# Altium integrated library ON Semi Schottky Diodes & Schottky Rectifiers.IntLib: 755 symbols (part 1 of 17)
Pins are listed as number, name and electrical type; pins without a type are passive.

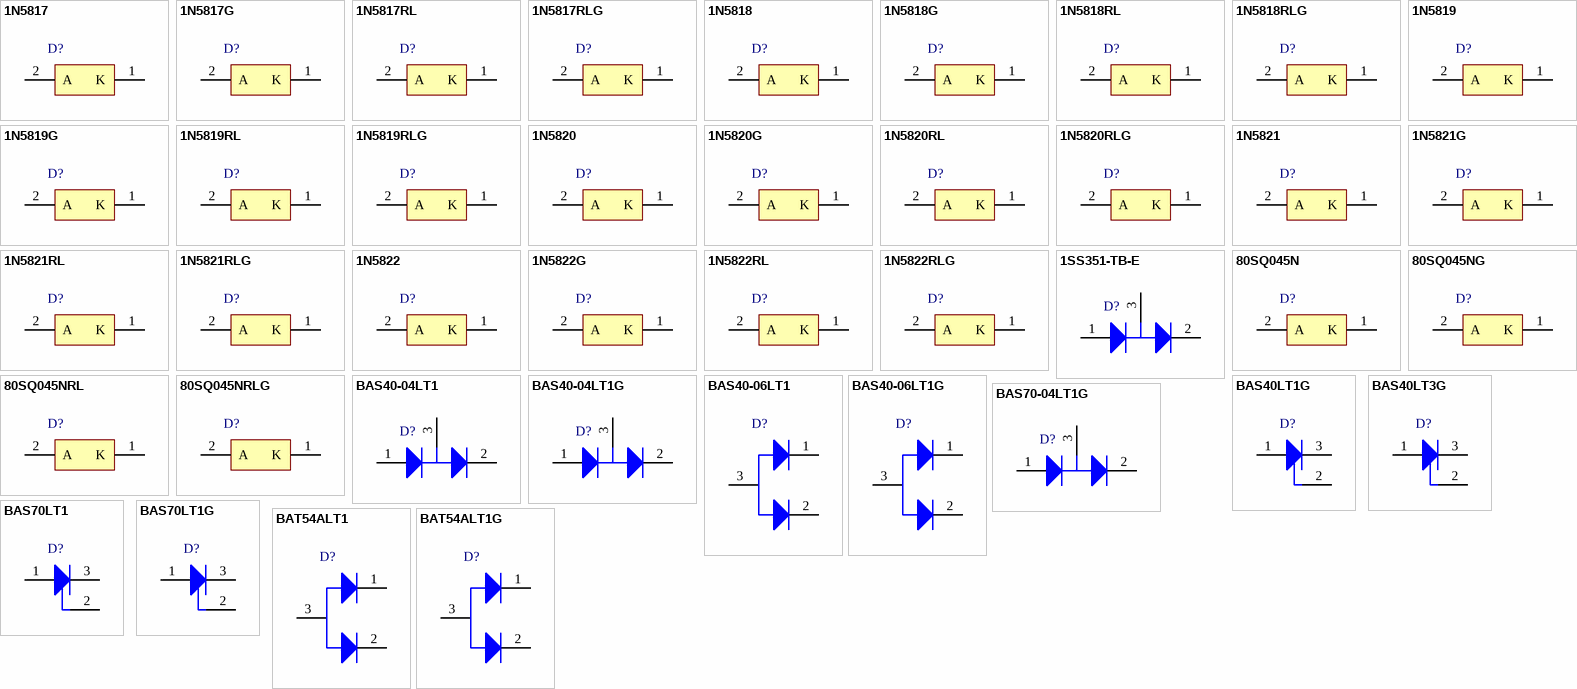
[diagram p0: symbols 1N5817 to BAT54ALT1G]

## 1N5817
designator D?
Rectifier, 2-Pin Axial_Lead, Pb-Free, Bulk Bag; Manufacturer: On Semiconductor; PartNumber: 1N5817; Note: 0; Configuration: Single; IFSM Max (A): 25; DatasheetVersion: Rev. 10; PackageVersion: Rev. U, 02/2005; PackageReference: AXIAL_LEAD-2-59-10; PackageDescription: 2-Pin, Axial Lead, Diameter 2.35 mm; Packing: Bulk Bag; RoHS: TRUE; Mounting Technology: Through Hole; ComponentLink1Description: Manufacturer URL; ComponentLink1URL: http://www.onsemi.com/; ComponentLink2Description: Datasheet; ComponentLink2URL: http://www.onsemi.cn/pub_link/Collateral/1N5817-D.PDF; ComponentLink3Description: Package Specification; ComponentLink3URL: http://www.onsemi.cn/pub_link/Collateral/59-10.PDF
footprint ONSC-AXIAL_LEAD-2-59-10_P (AXIAL, 2-Leads, Diameter 2.35mm)
pins: 1 K, 2 A

## 1N5817G
designator D?
Rectifier, 2-Pin Axial_Lead, Pb-Free, Bulk Bag; Manufacturer: On Semiconductor; PartNumber: 1N5817G; Configuration: Single; IFSM Max (A): 25; DatasheetVersion: Rev. 10; PackageVersion: Rev. U, 02/2005; PackageReference: AXIAL_LEAD-2-59-10; PackageDescription: 2-Pin, Axial Lead, Diameter 2.35 mm; Supplier 1: Digi-Key; Supplier Part Number 1: 1N5817GOS-ND; Supplier 2: Farnell; Supplier Part Number 2: 1458990; Supplier 3: Newark; Supplier Part Number 3: 42K2943; Supplier 4: Mouser; Supplier Part Number 4: 863-1N5817G; Packing: Bulk Bag; RoHS: TRUE; Mounting Technology: Through Hole; ComponentLink1Description: Manufacturer URL; ComponentLink1URL: http://www.onsemi.com/; ComponentLink2Description: Datasheet; ComponentLink2URL: http://www.onsemi.cn/pub_link/Collateral/1N5817-D.PDF; ComponentLink3Description: Package Specification; ComponentLink3URL: http://www.onsemi.cn/pub_link/Collateral/59-10.PDF
footprint ONSC-AXIAL_LEAD-2-59-10_P (AXIAL, 2-Leads, Diameter 2.35mm)
pins: 1 K, 2 A

## 1N5817RL
designator D?
Rectifier, 2-Pin Axial_Lead, Pb-Free, Tape and Reel; Manufacturer: On Semiconductor; PartNumber: 1N5817RL; Configuration: Single; IFSM Max (A): 25; DatasheetVersion: Rev. 10; PackageVersion: Rev. U, 02/2005; PackageReference: AXIAL_LEAD-2-59-10; PackageDescription: 2-Pin, Axial Lead, Diameter 2.35 mm; Supplier 1: Digi-Key; Supplier Part Number 1: 1N5817RLOSTR-ND; Supplier 2: Digi-Key; Supplier Part Number 2: 1N5817RLOSCT-ND; Supplier 3: Mouser; Supplier Part Number 3: 863-1N5817RL; Packing: Tape and Reel; RoHS: TRUE; Mounting Technology: Through Hole; ComponentLink1Description: Manufacturer URL; ComponentLink1URL: http://www.onsemi.com/; ComponentLink2Description: Datasheet; ComponentLink2URL: http://www.onsemi.cn/pub_link/Collateral/1N5817-D.PDF; ComponentLink3Description: Package Specification; ComponentLink3URL: http://www.onsemi.cn/pub_link/Collateral/59-10.PDF
footprint ONSC-AXIAL_LEAD-2-59-10_P (AXIAL, 2-Leads, Diameter 2.35mm)
pins: 1 K, 2 A

## 1N5817RLG
designator D?
Rectifier, 2-Pin Axial_Lead, Pb-Free, Tape and Reel; Manufacturer: On Semiconductor; PartNumber: 1N5817RLG; Configuration: Single; IFSM Max (A): 25; DatasheetVersion: Rev. 10; PackageVersion: Rev. U, 02/2005; PackageReference: AXIAL_LEAD-2-59-10; PackageDescription: 2-Pin, Axial Lead, Diameter 2.35 mm; Supplier 1: Digi-Key; Supplier Part Number 1: 1N5817RLGOSTR-ND; Supplier 2: Digi-Key; Supplier Part Number 2: 1N5817RLGOSCT-ND; Supplier 3: Farnell; Supplier Part Number 3: 2125984; Supplier 4: Newark; Supplier Part Number 4: 93K1999; Supplier 5: Newark; Supplier Part Number 5: 42K2944; Supplier 6: Mouser; Supplier Part Number 6: 863-1N5817RLG; Packing: Tape and Reel; RoHS: TRUE; Mounting Technology: Through Hole; ComponentLink1Description: Manufacturer URL; ComponentLink1URL: http://www.onsemi.com/; ComponentLink2Description: Datasheet; ComponentLink2URL: http://www.onsemi.cn/pub_link/Collateral/1N5817-D.PDF; ComponentLink3Description: Package Specification; ComponentLink3URL: http://www.onsemi.cn/pub_link/Collateral/59-10.PDF
footprint ONSC-AXIAL_LEAD-2-59-10_P (AXIAL, 2-Leads, Diameter 2.35mm)
pins: 1 K, 2 A

## 1N5818
designator D?
Rectifier, 2-Pin Axial_Lead, Pb-Free, Bulk Bag; Manufacturer: On Semiconductor; PartNumber: 1N5818; Note: 0; Configuration: Single; IFSM Max (A): 25; DatasheetVersion: Rev. 10; PackageVersion: Rev. U, 02/2005; PackageReference: AXIAL_LEAD-2-59-10; PackageDescription: 2-Pin, Axial Lead, Diameter 2.35 mm; Packing: Bulk Bag; RoHS: TRUE; Mounting Technology: Through Hole; ComponentLink1Description: Manufacturer URL; ComponentLink1URL: http://www.onsemi.com/; ComponentLink2Description: Datasheet; ComponentLink2URL: http://www.onsemi.cn/pub_link/Collateral/1N5817-D.PDF; ComponentLink3Description: Package Specification; ComponentLink3URL: http://www.onsemi.cn/pub_link/Collateral/59-10.PDF
footprint ONSC-AXIAL_LEAD-2-59-10_P (AXIAL, 2-Leads, Diameter 2.35mm)
pins: 1 K, 2 A

## 1N5818G
designator D?
Rectifier, 2-Pin Axial_Lead, Pb-Free, Bulk Bag; Manufacturer: On Semiconductor; PartNumber: 1N5818G; Configuration: Single; IFSM Max (A): 25; DatasheetVersion: Rev. 10; PackageVersion: Rev. U, 02/2005; PackageReference: AXIAL_LEAD-2-59-10; PackageDescription: 2-Pin, Axial Lead, Diameter 2.35 mm; Supplier 1: Digi-Key; Supplier Part Number 1: 1N5818GOS-ND; Supplier 2: Farnell; Supplier Part Number 2: 1126319; Supplier 3: Newark; Supplier Part Number 3: 42K2945; Supplier 4: Mouser; Supplier Part Number 4: 863-1N5818G; Packing: Bulk Bag; RoHS: TRUE; Mounting Technology: Through Hole; ComponentLink1Description: Manufacturer URL; ComponentLink1URL: http://www.onsemi.com/; ComponentLink2Description: Datasheet; ComponentLink2URL: http://www.onsemi.cn/pub_link/Collateral/1N5817-D.PDF; ComponentLink3Description: Package Specification; ComponentLink3URL: http://www.onsemi.cn/pub_link/Collateral/59-10.PDF
footprint ONSC-AXIAL_LEAD-2-59-10_P (AXIAL, 2-Leads, Diameter 2.35mm)
pins: 1 K, 2 A

## 1N5818RL
designator D?
Rectifier, 2-Pin Axial_Lead, Pb-Free, Tape and Reel; Manufacturer: On Semiconductor; PartNumber: 1N5818RL; Configuration: Single; IFSM Max (A): 25; DatasheetVersion: Rev. 10; PackageVersion: Rev. U, 02/2005; PackageReference: AXIAL_LEAD-2-59-10; PackageDescription: 2-Pin, Axial Lead, Diameter 2.35 mm; Supplier 1: Digi-Key; Supplier Part Number 1: 1N5818RLOSTR-ND; Supplier 2: Mouser; Supplier Part Number 2: 863-1N5818RL; Packing: Tape and Reel; RoHS: TRUE; Mounting Technology: Through Hole; ComponentLink1Description: Manufacturer URL; ComponentLink1URL: http://www.onsemi.com/; ComponentLink2Description: Datasheet; ComponentLink2URL: http://www.onsemi.cn/pub_link/Collateral/1N5817-D.PDF; ComponentLink3Description: Package Specification; ComponentLink3URL: http://www.onsemi.cn/pub_link/Collateral/59-10.PDF
footprint ONSC-AXIAL_LEAD-2-59-10_P (AXIAL, 2-Leads, Diameter 2.35mm)
pins: 1 K, 2 A

## 1N5818RLG
designator D?
Rectifier, 2-Pin Axial_Lead, Pb-Free, Tape and Reel; Manufacturer: On Semiconductor; PartNumber: 1N5818RLG; Configuration: Single; IFSM Max (A): 25; DatasheetVersion: Rev. 10; PackageVersion: Rev. U, 02/2005; PackageReference: AXIAL_LEAD-2-59-10; PackageDescription: 2-Pin, Axial Lead, Diameter 2.35 mm; Supplier 1: Digi-Key; Supplier Part Number 1: 1N5818RLGOSTR-ND; Supplier 2: Digi-Key; Supplier Part Number 2: 1N5818RLGOSCT-ND; Supplier 3: Farnell; Supplier Part Number 3: 1431029; Supplier 4: Newark; Supplier Part Number 4: 42K2946; Supplier 5: Newark; Supplier Part Number 5: 02M1924; Supplier 6: Mouser; Supplier Part Number 6: 863-1N5818RLG; Packing: Tape and Reel; RoHS: TRUE; Mounting Technology: Through Hole; ComponentLink1Description: Manufacturer URL; ComponentLink1URL: http://www.onsemi.com/; ComponentLink2Description: Datasheet; ComponentLink2URL: http://www.onsemi.cn/pub_link/Collateral/1N5817-D.PDF; ComponentLink3Description: Package Specification; ComponentLink3URL: http://www.onsemi.cn/pub_link/Collateral/59-10.PDF
footprint ONSC-AXIAL_LEAD-2-59-10_P (AXIAL, 2-Leads, Diameter 2.35mm)
pins: 1 K, 2 A

## 1N5819
designator D?
Rectifier, 2-Pin Axial_Lead, Pb-Free, Bulk Bag; Manufacturer: On Semiconductor; PartNumber: 1N5819; Note: 0; Configuration: Single; IFSM Max (A): 25; DatasheetVersion: Rev. 10; PackageVersion: Rev. U, 02/2005; PackageReference: AXIAL_LEAD-2-59-10; PackageDescription: 2-Pin, Axial Lead, Diameter 2.35 mm; Packing: Bulk Bag; RoHS: TRUE; Mounting Technology: Through Hole; ComponentLink1Description: Manufacturer URL; ComponentLink1URL: http://www.onsemi.com/; ComponentLink2Description: Datasheet; ComponentLink2URL: http://www.onsemi.cn/pub_link/Collateral/1N5817-D.PDF; ComponentLink3Description: Package Specification; ComponentLink3URL: http://www.onsemi.cn/pub_link/Collateral/59-10.PDF
footprint ONSC-AXIAL_LEAD-2-59-10_P (AXIAL, 2-Leads, Diameter 2.35mm)
pins: 1 K, 2 A

## 1N5819G
designator D?
Rectifier, 2-Pin Axial_Lead, Pb-Free, Bulk Bag; Manufacturer: On Semiconductor; PartNumber: 1N5819G; Configuration: Single; IFSM Max (A): 25; DatasheetVersion: Rev. 10; PackageVersion: Rev. U, 02/2005; PackageReference: AXIAL_LEAD-2-59-10; PackageDescription: 2-Pin, Axial Lead, Diameter 2.35 mm; Supplier 1: Digi-Key; Supplier Part Number 1: 1N5819GOS-ND; Supplier 2: Farnell; Supplier Part Number 2: 1458992; Supplier 3: Newark; Supplier Part Number 3: 42K2947; Supplier 4: Mouser; Supplier Part Number 4: 863-1N5819G; Packing: Bulk Bag; RoHS: TRUE; Mounting Technology: Through Hole; ComponentLink1Description: Manufacturer URL; ComponentLink1URL: http://www.onsemi.com/; ComponentLink2Description: Datasheet; ComponentLink2URL: http://www.onsemi.cn/pub_link/Collateral/1N5817-D.PDF; ComponentLink3Description: Package Specification; ComponentLink3URL: http://www.onsemi.cn/pub_link/Collateral/59-10.PDF
footprint ONSC-AXIAL_LEAD-2-59-10_P (AXIAL, 2-Leads, Diameter 2.35mm)
pins: 1 K, 2 A

## 1N5819RL
designator D?
Rectifier, 2-Pin Axial_Lead, Pb-Free, Tape and Reel; Manufacturer: On Semiconductor; PartNumber: 1N5819RL; Configuration: Single; IFSM Max (A): 25; DatasheetVersion: Rev. 10; PackageVersion: Rev. U, 02/2005; PackageReference: AXIAL_LEAD-2-59-10; PackageDescription: 2-Pin, Axial Lead, Diameter 2.35 mm; Supplier 1: Digi-Key; Supplier Part Number 1: 1N5819RLOSTR-ND; Supplier 2: Digi-Key; Supplier Part Number 2: 1N5819RLOSCT-ND; Packing: Tape and Reel; RoHS: TRUE; Mounting Technology: Through Hole; ComponentLink1Description: Manufacturer URL; ComponentLink1URL: http://www.onsemi.com/; ComponentLink2Description: Datasheet; ComponentLink2URL: http://www.onsemi.cn/pub_link/Collateral/1N5817-D.PDF; ComponentLink3Description: Package Specification; ComponentLink3URL: http://www.onsemi.cn/pub_link/Collateral/59-10.PDF
footprint ONSC-AXIAL_LEAD-2-59-10_P (AXIAL, 2-Leads, Diameter 2.35mm)
pins: 1 K, 2 A

## 1N5819RLG
designator D?
Rectifier, 2-Pin Axial_Lead, Pb-Free, Tape and Reel; Manufacturer: On Semiconductor; PartNumber: 1N5819RLG; Configuration: Single; IFSM Max (A): 25; DatasheetVersion: Rev. 10; PackageVersion: Rev. U, 02/2005; PackageReference: AXIAL_LEAD-2-59-10; PackageDescription: 2-Pin, Axial Lead, Diameter 2.35 mm; Supplier 1: Digi-Key; Supplier Part Number 1: 1N5819RLGOSTR-ND; Supplier 2: Digi-Key; Supplier Part Number 2: 1N5819RLGOSCT-ND; Supplier 3: Farnell; Supplier Part Number 3: 9557350; Supplier 4: Farnell; Supplier Part Number 4: 2370848; Supplier 5: Newark; Supplier Part Number 5: 88H5161; Supplier 6: Newark; Supplier Part Number 6: 67R1399; Supplier 7: Mouser; Supplier Part Number 7: 863-1N5819RLG; Packing: Tape and Reel; RoHS: TRUE; Mounting Technology: Through Hole; ComponentLink1Description: Manufacturer URL; ComponentLink1URL: http://www.onsemi.com/; ComponentLink2Description: Datasheet; ComponentLink2URL: http://www.onsemi.cn/pub_link/Collateral/1N5817-D.PDF; ComponentLink3Description: Package Specification; ComponentLink3URL: http://www.onsemi.cn/pub_link/Collateral/59-10.PDF
footprint ONSC-AXIAL_LEAD-2-59-10_P (AXIAL, 2-Leads, Diameter 2.35mm)
pins: 1 K, 2 A

## 1N5820
designator D?
Rectifier, 2-Pin Axial_Lead, Bulk Bag; Manufacturer: On Semiconductor; PartNumber: 1N5820; Note: 0; Configuration: Single; IFSM Max (A): 80; DatasheetVersion: Rev. 10; PackageVersion: Rev. G, 06/2000; PackageReference: AXIAL_LEAD-2-267-05; PackageDescription: 2-Pin, Axial Lead, Diameter 5.05 mm; Packing: Bulk Bag; RoHS: FALSE; Mounting Technology: Through Hole; ComponentLink1Description: Manufacturer URL; ComponentLink1URL: http://www.onsemi.com/; ComponentLink2Description: Datasheet; ComponentLink2URL: http://www.onsemi.cn/pub_link/Collateral/1N5820-D.PDF; ComponentLink3Description: Package Specification; ComponentLink3URL: http://www.onsemi.com/pub_link/Collateral/267-05.PDF
footprint ONSC-AXIAL_LEAD-2-267-05_V (AXIAL, 2-Leads, Diameter 5.05mm)
pins: 1 K, 2 A

## 1N5820G
designator D?
Rectifier, 2-Pin Axial_Lead, Pb-Free, Bulk Bag; Manufacturer: On Semiconductor; PartNumber: 1N5820G; Configuration: Single; IFSM Max (A): 80; DatasheetVersion: Rev. 10; PackageVersion: Rev. G, 06/2000; PackageReference: AXIAL_LEAD-2-267-05; PackageDescription: 2-Pin, Axial Lead, Diameter 5.05 mm; Supplier 1: Digi-Key; Supplier Part Number 1: 1N5820GOS-ND; Supplier 2: Farnell; Supplier Part Number 2: 2317410; Supplier 3: Newark; Supplier Part Number 3: 42K2948; Supplier 4: Mouser; Supplier Part Number 4: 863-1N5820G; Packing: Bulk Bag; RoHS: TRUE; Mounting Technology: Through Hole; ComponentLink1Description: Manufacturer URL; ComponentLink1URL: http://www.onsemi.com/; ComponentLink2Description: Datasheet; ComponentLink2URL: http://www.onsemi.cn/pub_link/Collateral/1N5820-D.PDF; ComponentLink3Description: Package Specification; ComponentLink3URL: http://www.onsemi.com/pub_link/Collateral/267-05.PDF
footprint ONSC-AXIAL_LEAD-2-267-05_V (AXIAL, 2-Leads, Diameter 5.05mm)
pins: 1 K, 2 A

## 1N5820RL
designator D?
Rectifier, 2-Pin Axial_Lead, Tape and Reel; Manufacturer: On Semiconductor; PartNumber: 1N5820RL; Configuration: Single; IFSM Max (A): 80; DatasheetVersion: Rev. 10; PackageVersion: Rev. G, 06/2000; PackageReference: AXIAL_LEAD-2-267-05; PackageDescription: 2-Pin, Axial Lead, Diameter 5.05 mm; Supplier 1: Digi-Key; Supplier Part Number 1: 1N5820RLOSTR-ND; Supplier 2: Mouser; Supplier Part Number 2: 863-1N5820RL; Packing: Tape and Reel; RoHS: FALSE; Mounting Technology: Through Hole; ComponentLink1Description: Manufacturer URL; ComponentLink1URL: http://www.onsemi.com/; ComponentLink2Description: Datasheet; ComponentLink2URL: http://www.onsemi.cn/pub_link/Collateral/1N5820-D.PDF; ComponentLink3Description: Package Specification; ComponentLink3URL: http://www.onsemi.com/pub_link/Collateral/267-05.PDF
footprint ONSC-AXIAL_LEAD-2-267-05_V (AXIAL, 2-Leads, Diameter 5.05mm)
pins: 1 K, 2 A

## 1N5820RLG
designator D?
Rectifier, 2-Pin Axial_Lead, Pb-Free, Tape and Reel; Manufacturer: On Semiconductor; PartNumber: 1N5820RLG; Configuration: Single; IFSM Max (A): 80; DatasheetVersion: Rev. 10; PackageVersion: Rev. G, 06/2000; PackageReference: AXIAL_LEAD-2-267-05; PackageDescription: 2-Pin, Axial Lead, Diameter 5.05 mm; Supplier 1: Digi-Key; Supplier Part Number 1: 1N5820RLGOSTR-ND; Supplier 2: Digi-Key; Supplier Part Number 2: 1N5820RLGOSCT-ND; Supplier 3: Newark; Supplier Part Number 3: 84K8838; Supplier 4: Newark; Supplier Part Number 4: 42K2949; Supplier 5: Mouser; Supplier Part Number 5: 863-1N5820RLG; Packing: Tape and Reel; RoHS: TRUE; Mounting Technology: Through Hole; ComponentLink1Description: Manufacturer URL; ComponentLink1URL: http://www.onsemi.com/; ComponentLink2Description: Datasheet; ComponentLink2URL: http://www.onsemi.cn/pub_link/Collateral/1N5820-D.PDF; ComponentLink3Description: Package Specification; ComponentLink3URL: http://www.onsemi.com/pub_link/Collateral/267-05.PDF
footprint ONSC-AXIAL_LEAD-2-267-05_V (AXIAL, 2-Leads, Diameter 5.05mm)
pins: 1 K, 2 A

## 1N5821
designator D?
Rectifier, 2-Pin Axial_Lead, Bulk Bag; Manufacturer: On Semiconductor; PartNumber: 1N5821; Note: 0; Configuration: Single; IFSM Max (A): 80; DatasheetVersion: Rev. 10; PackageVersion: Rev. G, 06/2000; PackageReference: AXIAL_LEAD-2-267-05; PackageDescription: 2-Pin, Axial Lead, Diameter 5.05 mm; Packing: Bulk Bag; RoHS: FALSE; Mounting Technology: Through Hole; ComponentLink1Description: Manufacturer URL; ComponentLink1URL: http://www.onsemi.com/; ComponentLink2Description: Datasheet; ComponentLink2URL: http://www.onsemi.cn/pub_link/Collateral/1N5820-D.PDF; ComponentLink3Description: Package Specification; ComponentLink3URL: http://www.onsemi.com/pub_link/Collateral/267-05.PDF
footprint ONSC-AXIAL_LEAD-2-267-05_V (AXIAL, 2-Leads, Diameter 5.05mm)
pins: 1 K, 2 A

## 1N5821G
designator D?
Rectifier, 2-Pin Axial_Lead, Pb-Free, Bulk Bag; Manufacturer: On Semiconductor; PartNumber: 1N5821G; Configuration: Single; IFSM Max (A): 80; DatasheetVersion: Rev. 10; PackageVersion: Rev. G, 06/2000; PackageReference: AXIAL_LEAD-2-267-05; PackageDescription: 2-Pin, Axial Lead, Diameter 5.05 mm; Supplier 1: Digi-Key; Supplier Part Number 1: 1N5821GOS-ND; Supplier 2: Farnell; Supplier Part Number 2: 1126321; Supplier 3: Newark; Supplier Part Number 3: 42K2950; Supplier 4: Mouser; Supplier Part Number 4: 863-1N5821G; Packing: Bulk Bag; RoHS: TRUE; Mounting Technology: Through Hole; ComponentLink1Description: Manufacturer URL; ComponentLink1URL: http://www.onsemi.com/; ComponentLink2Description: Datasheet; ComponentLink2URL: http://www.onsemi.cn/pub_link/Collateral/1N5820-D.PDF; ComponentLink3Description: Package Specification; ComponentLink3URL: http://www.onsemi.com/pub_link/Collateral/267-05.PDF
footprint ONSC-AXIAL_LEAD-2-267-05_V (AXIAL, 2-Leads, Diameter 5.05mm)
pins: 1 K, 2 A

## 1N5821RL
designator D?
Rectifier, 2-Pin Axial_Lead, Tape and Reel; Manufacturer: On Semiconductor; PartNumber: 1N5821RL; Configuration: Single; IFSM Max (A): 80; DatasheetVersion: Rev. 10; PackageVersion: Rev. G, 06/2000; PackageReference: AXIAL_LEAD-2-267-05; PackageDescription: 2-Pin, Axial Lead, Diameter 5.05 mm; Supplier 1: Digi-Key; Supplier Part Number 1: 1N5821RLOSTR-ND; Supplier 2: Digi-Key; Supplier Part Number 2: 1N5821RLOSCT-ND; Packing: Tape and Reel; RoHS: FALSE; Mounting Technology: Through Hole; ComponentLink1Description: Manufacturer URL; ComponentLink1URL: http://www.onsemi.com/; ComponentLink2Description: Datasheet; ComponentLink2URL: http://www.onsemi.cn/pub_link/Collateral/1N5820-D.PDF; ComponentLink3Description: Package Specification; ComponentLink3URL: http://www.onsemi.com/pub_link/Collateral/267-05.PDF
footprint ONSC-AXIAL_LEAD-2-267-05_V (AXIAL, 2-Leads, Diameter 5.05mm)
pins: 1 K, 2 A

## 1N5821RLG
designator D?
Rectifier, 2-Pin Axial_Lead, Pb-Free, Tape and Reel; Manufacturer: On Semiconductor; PartNumber: 1N5821RLG; Configuration: Single; IFSM Max (A): 80; DatasheetVersion: Rev. 10; PackageVersion: Rev. G, 06/2000; PackageReference: AXIAL_LEAD-2-267-05; PackageDescription: 2-Pin, Axial Lead, Diameter 5.05 mm; Supplier 1: Digi-Key; Supplier Part Number 1: 1N5821RLGOSTR-ND; Supplier 2: Digi-Key; Supplier Part Number 2: 1N5821RLGOSCT-ND; Supplier 3: Farnell; Supplier Part Number 3: 1431032; Supplier 4: Newark; Supplier Part Number 4: 10N9643; Supplier 5: Newark; Supplier Part Number 5: 42K2951; Supplier 6: Mouser; Supplier Part Number 6: 863-1N5821RLG; Packing: Tape and Reel; RoHS: TRUE; Mounting Technology: Through Hole; ComponentLink1Description: Manufacturer URL; ComponentLink1URL: http://www.onsemi.com/; ComponentLink2Description: Datasheet; ComponentLink2URL: http://www.onsemi.cn/pub_link/Collateral/1N5820-D.PDF; ComponentLink3Description: Package Specification; ComponentLink3URL: http://www.onsemi.com/pub_link/Collateral/267-05.PDF
footprint ONSC-AXIAL_LEAD-2-267-05_V (AXIAL, 2-Leads, Diameter 5.05mm)
pins: 1 K, 2 A

## 1N5822
designator D?
Rectifier, 2-Pin Axial_Lead, Bulk Bag; Manufacturer: On Semiconductor; PartNumber: 1N5822; Note: 0; Configuration: Single; IFSM Max (A): 80; DatasheetVersion: Rev. 10; PackageVersion: Rev. G, 06/2000; PackageReference: AXIAL_LEAD-2-267-05; PackageDescription: 2-Pin, Axial Lead, Diameter 5.05 mm; Packing: Bulk Bag; RoHS: FALSE; Mounting Technology: Through Hole; ComponentLink1Description: Manufacturer URL; ComponentLink1URL: http://www.onsemi.com/; ComponentLink2Description: Datasheet; ComponentLink2URL: http://www.onsemi.cn/pub_link/Collateral/1N5820-D.PDF; ComponentLink3Description: Package Specification; ComponentLink3URL: http://www.onsemi.com/pub_link/Collateral/267-05.PDF
footprint ONSC-AXIAL_LEAD-2-267-05_V (AXIAL, 2-Leads, Diameter 5.05mm)
pins: 1 K, 2 A

## 1N5822G
designator D?
Rectifier, 2-Pin Axial_Lead, Pb-Free, Bulk Bag; Manufacturer: On Semiconductor; PartNumber: 1N5822G; Configuration: Single; IFSM Max (A): 80; DatasheetVersion: Rev. 10; PackageVersion: Rev. G, 06/2000; PackageReference: AXIAL_LEAD-2-267-05; PackageDescription: 2-Pin, Axial Lead, Diameter 5.05 mm; Supplier 1: Digi-Key; Supplier Part Number 1: 1N5822GOS-ND; Supplier 2: Farnell; Supplier Part Number 2: 1458993; Supplier 3: Newark; Supplier Part Number 3: 42K2952; Supplier 4: Mouser; Supplier Part Number 4: 863-1N5822G; Packing: Bulk Bag; RoHS: TRUE; Mounting Technology: Through Hole; ComponentLink1Description: Manufacturer URL; ComponentLink1URL: http://www.onsemi.com/; ComponentLink2Description: Datasheet; ComponentLink2URL: http://www.onsemi.cn/pub_link/Collateral/1N5820-D.PDF; ComponentLink3Description: Package Specification; ComponentLink3URL: http://www.onsemi.com/pub_link/Collateral/267-05.PDF
footprint ONSC-AXIAL_LEAD-2-267-05_V (AXIAL, 2-Leads, Diameter 5.05mm)
pins: 1 K, 2 A

## 1N5822RL
designator D?
Rectifier, 2-Pin Axial_Lead, Tape and Reel; Manufacturer: On Semiconductor; PartNumber: 1N5822RL; Configuration: Single; IFSM Max (A): 80; DatasheetVersion: Rev. 10; PackageVersion: Rev. G, 06/2000; PackageReference: AXIAL_LEAD-2-267-05; PackageDescription: 2-Pin, Axial Lead, Diameter 5.05 mm; Supplier 1: Digi-Key; Supplier Part Number 1: 1N5822RLOSTR-ND; Supplier 2: Digi-Key; Supplier Part Number 2: 1N5822RLOSCT-ND; Packing: Tape and Reel; RoHS: FALSE; Mounting Technology: Through Hole; ComponentLink1Description: Manufacturer URL; ComponentLink1URL: http://www.onsemi.com/; ComponentLink2Description: Datasheet; ComponentLink2URL: http://www.onsemi.cn/pub_link/Collateral/1N5820-D.PDF; ComponentLink3Description: Package Specification; ComponentLink3URL: http://www.onsemi.com/pub_link/Collateral/267-05.PDF
footprint ONSC-AXIAL_LEAD-2-267-05_V (AXIAL, 2-Leads, Diameter 5.05mm)
pins: 1 K, 2 A

## 1N5822RLG
designator D?
Rectifier, 2-Pin Axial_Lead, Pb-Free, Tape and Reel; Manufacturer: On Semiconductor; PartNumber: 1N5822RLG; Configuration: Single; IFSM Max (A): 80; DatasheetVersion: Rev. 10; PackageVersion: Rev. G, 06/2000; PackageReference: AXIAL_LEAD-2-267-05; PackageDescription: 2-Pin, Axial Lead, Diameter 5.05 mm; Supplier 1: Digi-Key; Supplier Part Number 1: 1N5822RLGOSTR-ND; Supplier 2: Digi-Key; Supplier Part Number 2: 1N5822RLGOSCT-ND; Supplier 3: Farnell; Supplier Part Number 3: 9557369; Supplier 4: Newark; Supplier Part Number 4: 80K5141; Supplier 5: Newark; Supplier Part Number 5: 42K2953; Supplier 6: Mouser; Supplier Part Number 6: 863-1N5822RLG; Packing: Tape and Reel; RoHS: TRUE; Mounting Technology: Through Hole; ComponentLink1Description: Manufacturer URL; ComponentLink1URL: http://www.onsemi.com/; ComponentLink2Description: Datasheet; ComponentLink2URL: http://www.onsemi.cn/pub_link/Collateral/1N5820-D.PDF; ComponentLink3Description: Package Specification; ComponentLink3URL: http://www.onsemi.com/pub_link/Collateral/267-05.PDF
footprint ONSC-AXIAL_LEAD-2-267-05_V (AXIAL, 2-Leads, Diameter 5.05mm)
pins: 1 K, 2 A

## 1SS351-TB-E
designator D?
Dual Series Schottky Barrier Diodes for Mixer and Detector, 5 V, 30 mA, 0.69 pF, 3-Pin CP, Pb-Free, Tape and Reel; Manufacturer: On Semiconductor; PartNumber: 1SS351-TB-E; PackageReference: CP-3-318AN_A; PackageDescription: 3-Pin Small Outline Transistor, Body 2.9 x 1.5 mm, Pitch 0.95 mm; Supplier 1: Digi-Key; Supplier Part Number 1: 1SS351-TB-E-ND; Supplier 2: Newark; Supplier Part Number 2: 07W7547; Supplier 3: Mouser; Supplier Part Number 3: 863-1SS351-TB-E; Configuration: Dual; Packing: Tape and Reel; RoHS: TRUE; Mounting Technology: Surface Mount; ComponentLink1Description: Manufacturer URL; ComponentLink1URL: http://www.onsemi.com/; ComponentLink2Description: Datasheet; ComponentLink2URL: http://www.onsemi.cn/pub_link/Collateral/EN3240-D.PDF; ComponentLink3Description: Package Specification; ComponentLink3URL: http://www.onsemi.com/pub_link/Collateral/EN6619-D.PDF
footprint ONSC-CP-3-318AN_A_V (SOT23, 3-Leads, Body 2.9x1.5mm, Pitch 0.95mm)
pins: 1 A, 2 K, 3 K/A

## 80SQ045N
designator D?
Rectifier, 2-Pin Axial_Lead, Pb-Free, Bulk Box; Manufacturer: On Semiconductor; PartNumber: 80SQ045N; Configuration: Single; IFSM Max (A): 140; DatasheetVersion: Rev. 3; PackageVersion: Rev. G, 06/2000; PackageReference: AXIAL_LEAD-2-267-05; PackageDescription: 2-Pin, Axial Lead, Diameter 5.05 mm; Supplier 1: Digi-Key; Supplier Part Number 1: 80SQ045N-ND; Supplier 2: Mouser; Supplier Part Number 2: 863-80SQ045N; Packing: Bulk Box; RoHS: TRUE; Mounting Technology: Through Hole; ComponentLink1Description: Manufacturer URL; ComponentLink1URL: http://www.onsemi.com/; ComponentLink2Description: Datasheet; ComponentLink2URL: http://www.onsemi.cn/pub_link/Collateral/80SQ045N-D.PDF; ComponentLink3Description: Package Specification; ComponentLink3URL: http://www.onsemi.com/pub_link/Collateral/267-05.PDF
footprint ONSC-AXIAL_LEAD-2-267-05_V (AXIAL, 2-Leads, Diameter 5.05mm)
pins: 1 K, 2 A

## 80SQ045NG
designator D?
Rectifier, 2-Pin Axial_Lead, Pb-Free, Bulk Box; Manufacturer: On Semiconductor; PartNumber: 80SQ045NG; Configuration: Single; IFSM Max (A): 140; DatasheetVersion: Rev. 3; PackageVersion: Rev. G, 06/2000; PackageReference: AXIAL_LEAD-2-267-05; PackageDescription: 2-Pin, Axial Lead, Diameter 5.05 mm; Supplier 1: Digi-Key; Supplier Part Number 1: 80SQ045NGOS-ND; Supplier 2: Farnell; Supplier Part Number 2: 1431033; Supplier 3: Newark; Supplier Part Number 3: 42K3225; Supplier 4: Newark; Supplier Part Number 4: 59M6145; Supplier 5: Mouser; Supplier Part Number 5: 863-80SQ045NG; Packing: Bulk Box; RoHS: TRUE; Mounting Technology: Through Hole; ComponentLink1Description: Manufacturer URL; ComponentLink1URL: http://www.onsemi.com/; ComponentLink2Description: Datasheet; ComponentLink2URL: http://www.onsemi.cn/pub_link/Collateral/80SQ045N-D.PDF; ComponentLink3Description: Package Specification; ComponentLink3URL: http://www.onsemi.com/pub_link/Collateral/267-05.PDF
footprint ONSC-AXIAL_LEAD-2-267-05_V (AXIAL, 2-Leads, Diameter 5.05mm)
pins: 1 K, 2 A

## 80SQ045NRL
designator D?
Rectifier, 2-Pin Axial_Lead, Pb-Free, Tape and Reel; Manufacturer: On Semiconductor; PartNumber: 80SQ045NRL; Configuration: Single; IFSM Max (A): 140; DatasheetVersion: Rev. 3; PackageVersion: Rev. G, 06/2000; PackageReference: AXIAL_LEAD-2-267-05; PackageDescription: 2-Pin, Axial Lead, Diameter 5.05 mm; Supplier 1: Digi-Key; Supplier Part Number 1: 80SQ045NRLOS-ND; Supplier 2: Mouser; Supplier Part Number 2: 863-80SQ045NRL; Packing: Tape and Reel; RoHS: TRUE; Mounting Technology: Through Hole; ComponentLink1Description: Manufacturer URL; ComponentLink1URL: http://www.onsemi.com/; ComponentLink2Description: Datasheet; ComponentLink2URL: http://www.onsemi.cn/pub_link/Collateral/80SQ045N-D.PDF; ComponentLink3Description: Package Specification; ComponentLink3URL: http://www.onsemi.com/pub_link/Collateral/267-05.PDF
footprint ONSC-AXIAL_LEAD-2-267-05_V (AXIAL, 2-Leads, Diameter 5.05mm)
pins: 1 K, 2 A

## 80SQ045NRLG
designator D?
Rectifier, 2-Pin Axial_Lead, Pb-Free, Tape and Reel; Manufacturer: On Semiconductor; PartNumber: 80SQ045NRLG; Configuration: Single; IFSM Max (A): 140; DatasheetVersion: Rev. 3; PackageVersion: Rev. G, 06/2000; PackageReference: AXIAL_LEAD-2-267-05; PackageDescription: 2-Pin, Axial Lead, Diameter 5.05 mm; Supplier 1: Digi-Key; Supplier Part Number 1: 80SQ045NRLGOSTR-ND; Supplier 2: Digi-Key; Supplier Part Number 2: 80SQ045NRLGOSCT-ND; Supplier 3: Farnell; Supplier Part Number 3: 2101171; Supplier 4: Newark; Supplier Part Number 4: 42K3226; Supplier 5: Mouser; Supplier Part Number 5: 863-80SQ045NRLG; Packing: Tape and Reel; RoHS: TRUE; Mounting Technology: Through Hole; ComponentLink1Description: Manufacturer URL; ComponentLink1URL: http://www.onsemi.com/; ComponentLink2Description: Datasheet; ComponentLink2URL: http://www.onsemi.cn/pub_link/Collateral/80SQ045N-D.PDF; ComponentLink3Description: Package Specification; ComponentLink3URL: http://www.onsemi.com/pub_link/Collateral/267-05.PDF
footprint ONSC-AXIAL_LEAD-2-267-05_V (AXIAL, 2-Leads, Diameter 5.05mm)
pins: 1 K, 2 A

## BAS40-04LT1
designator D?
Dual Series Schottky Barrier Diodes, 3-Pin SOT-23, Tape and Reel; Manufacturer: On Semiconductor; PartNumber: BAS40-04LT1; DatasheetVersion: Rev. 11; PackageVersion: Rev. AP, 11/2009; PackageReference: SOT-23-3-318-08; PackageDescription: 3-Pin Small Outline Transistor, Body 2.92 x 1.3 mm, Pitch 0.95 mm; Supplier 1: Digi-Key; Supplier Part Number 1: BAS40-04LT1OSCT-ND; Configuration: Series; Packing: Tape and Reel; RoHS: FALSE; Mounting Technology: Surface Mount; ComponentLink1Description: Manufacturer URL; ComponentLink1URL: http://www.onsemi.com/; ComponentLink2Description: Datasheet; ComponentLink2URL: http://www.onsemi.cn/pub_link/Collateral/BAS40-04LT1-D.PDF; ComponentLink3Description: Package Specification; ComponentLink3URL: http://www.onsemi.cn/pub_link/Collateral/318-08.PDF
footprint ONSC-SOT-23-3-318-08_V (SOT23, 3-Leads, Body 2.92x1.3mm, Pitch 0.95mm)
pins: 1 A, 2 K, 3 K/A

## BAS40-04LT1G
designator D?
Dual Series Schottky Barrier Diodes, 3-Pin SOT-23, Pb-Free, Tape and Reel; Manufacturer: On Semiconductor; PartNumber: BAS40-04LT1G; DatasheetVersion: Rev. 11; PackageVersion: Rev. AP, 11/2009; PackageReference: SOT-23-3-318-08; PackageDescription: 3-Pin Small Outline Transistor, Body 2.92 x 1.3 mm, Pitch 0.95 mm; Supplier 1: Digi-Key; Supplier Part Number 1: BAS40-04LT1GOSTR-ND; Supplier 2: Digi-Key; Supplier Part Number 2: BAS40-04LT1GOSCT-ND; Supplier 3: Digi-Key; Supplier Part Number 3: BAS40-04LT1GOSDKR-ND; Supplier 4: Farnell; Supplier Part Number 4: 2317418; Supplier 5: Farnell; Supplier Part Number 5: 2370804; Supplier 6: Newark; Supplier Part Number 6: 88H4547; Supplier 7: Newark; Supplier Part Number 7: 67R1279; Supplier 8: Mouser; Supplier Part Number 8: 863-BAS40-04LT1G; Configuration: Series; Packing: Tape and Reel; RoHS: TRUE; Mounting Technology: Surface Mount; ComponentLink1Description: Manufacturer URL; ComponentLink1URL: http://www.onsemi.com/; ComponentLink2Description: Datasheet; ComponentLink2URL: http://www.onsemi.cn/pub_link/Collateral/BAS40-04LT1-D.PDF; ComponentLink3Description: Package Specification; ComponentLink3URL: http://www.onsemi.cn/pub_link/Collateral/318-08.PDF
footprint ONSC-SOT-23-3-318-08_V (SOT23, 3-Leads, Body 2.92x1.3mm, Pitch 0.95mm)
pins: 1 A, 2 K, 3 K/A

## BAS40-06LT1
designator D?
Common Anode Schottky Barrier Diodes, 3-Pin SOT-23, Tape and Reel; Manufacturer: On Semiconductor; PartNumber: BAS40-06LT1; DatasheetVersion: Rev. 8; PackageVersion: Rev. AP, 11/2009; PackageReference: SOT-23-3-318-08; PackageDescription: 3-Pin Small Outline Transistor, Body 2.92 x 1.3 mm, Pitch 0.95 mm; Supplier 1: Digi-Key; Supplier Part Number 1: BAS40-06LT1OSCT-ND; Configuration: Common Anode; Packing: Tape and Reel; RoHS: FALSE; Mounting Technology: Surface Mount; ComponentLink1Description: Manufacturer URL; ComponentLink1URL: http://www.onsemi.com/; ComponentLink2Description: Datasheet; ComponentLink2URL: http://www.onsemi.cn/pub_link/Collateral/BAS40-06LT1-D.PDF; ComponentLink3Description: Package Specification; ComponentLink3URL: http://www.onsemi.cn/pub_link/Collateral/318-08.PDF
footprint ONSC-SOT-23-3-318-08_V (SOT23, 3-Leads, Body 2.92x1.3mm, Pitch 0.95mm)
pins: 1 K1, 2 K2, 3 A

## BAS40-06LT1G
designator D?
Common Anode Schottky Barrier Diodes, 3-Pin SOT-23, Pb-Free, Tape and Reel; Manufacturer: On Semiconductor; PartNumber: BAS40-06LT1G; DatasheetVersion: Rev. 8; PackageVersion: Rev. AP, 11/2009; PackageReference: SOT-23-3-318-08; PackageDescription: 3-Pin Small Outline Transistor, Body 2.92 x 1.3 mm, Pitch 0.95 mm; Supplier 1: Digi-Key; Supplier Part Number 1: BAS40-06LT1GOSTR-ND; Supplier 2: Digi-Key; Supplier Part Number 2: BAS40-06LT1GOSCT-ND; Supplier 3: Digi-Key; Supplier Part Number 3: BAS40-06LT1GOSDKR-ND; Supplier 4: Farnell; Supplier Part Number 4: 2369089; Supplier 5: Farnell; Supplier Part Number 5: 1273192; Supplier 6: Newark; Supplier Part Number 6: 26K3366; Supplier 7: Newark; Supplier Part Number 7: 84K8722; Supplier 8: Mouser; Supplier Part Number 8: 863-BAS40-06LT1G; Configuration: Common Anode; Packing: Tape and Reel; RoHS: TRUE; Mounting Technology: Surface Mount; ComponentLink1Description: Manufacturer URL; ComponentLink1URL: http://www.onsemi.com/; ComponentLink2Description: Datasheet; ComponentLink2URL: http://www.onsemi.cn/pub_link/Collateral/BAS40-06LT1-D.PDF; ComponentLink3Description: Package Specification; ComponentLink3URL: http://www.onsemi.cn/pub_link/Collateral/318-08.PDF
footprint ONSC-SOT-23-3-318-08_V (SOT23, 3-Leads, Body 2.92x1.3mm, Pitch 0.95mm)
pins: 1 K1, 2 K2, 3 A

## BAS40LT1G
designator D?
Schottky Barrier Diode, 3-Pin SOT-23, Pb-Free, Tape and Reel; Manufacturer: On Semiconductor; PartNumber: BAS40LT1G; Configuration: Single; DatasheetVersion: Rev. 10; PackageVersion: Rev. AP, 11/2009; PackageReference: SOT-23-3-318-08; PackageDescription: 3-Pin Small Outline Transistor, Body 2.92 x 1.3 mm, Pitch 0.95 mm; Supplier 1: Digi-Key; Supplier Part Number 1: BAS40LT1GOSTR-ND; Supplier 2: Digi-Key; Supplier Part Number 2: BAS40LT1GOSCT-ND; Supplier 3: Digi-Key; Supplier Part Number 3: BAS40LT1GOSDKR-ND; Supplier 4: Farnell; Supplier Part Number 4: 2317432; Supplier 5: Newark; Supplier Part Number 5: 88H4548; Supplier 6: Mouser; Supplier Part Number 6: 863-BAS40LT1G; Packing: Tape and Reel; RoHS: TRUE; Mounting Technology: Surface Mount; ComponentLink1Description: Manufacturer URL; ComponentLink1URL: http://www.onsemi.com/; ComponentLink2Description: Datasheet; ComponentLink2URL: http://www.onsemi.cn/pub_link/Collateral/BAS40LT1-D.PDF; ComponentLink3Description: Package Specification; ComponentLink3URL: http://www.onsemi.cn/pub_link/Collateral/318-08.PDF
footprint ONSC-SOT-23-3-318-08_V (SOT23, 3-Leads, Body 2.92x1.3mm, Pitch 0.95mm)
pins: 1 A, 2 NC, 3 K

## BAS40LT3G
designator D?
Schottky Barrier Diode, 3-Pin SOT-23, Pb-Free, Tape and Reel; Manufacturer: On Semiconductor; PartNumber: BAS40LT3G; Configuration: Single; DatasheetVersion: Rev. 10; PackageVersion: Rev. AP, 11/2009; PackageReference: SOT-23-3-318-08; PackageDescription: 3-Pin Small Outline Transistor, Body 2.92 x 1.3 mm, Pitch 0.95 mm; Supplier 1: Digi-Key; Supplier Part Number 1: BAS40LT3G-ND; Supplier 2: Newark; Supplier Part Number 2: 46P7486; Supplier 3: Mouser; Supplier Part Number 3: 863-BAS40LT3G; Packing: Tape and Reel; RoHS: TRUE; Mounting Technology: Surface Mount; ComponentLink1Description: Manufacturer URL; ComponentLink1URL: http://www.onsemi.com/; ComponentLink2Description: Datasheet; ComponentLink2URL: http://www.onsemi.cn/pub_link/Collateral/BAS40LT1-D.PDF; ComponentLink3Description: Package Specification; ComponentLink3URL: http://www.onsemi.cn/pub_link/Collateral/318-08.PDF
footprint ONSC-SOT-23-3-318-08_V (SOT23, 3-Leads, Body 2.92x1.3mm, Pitch 0.95mm)
pins: 1 A, 2 NC, 3 K

## BAS70-04LT1G
designator D?
Dual Series Schottky Barrier Diodes, 3-Pin SOT-23, Pb-Free, Tape and Reel; Manufacturer: On Semiconductor; PartNumber: BAS70-04LT1G; IFSM Max (A): 0.1; DatasheetVersion: Rev. 10; PackageVersion: Rev. AP, 11/2009; PackageReference: SOT-23-3-318-08; PackageDescription: 3-Pin Small Outline Transistor, Body 2.92 x 1.3 mm, Pitch 0.95 mm; Supplier 1: Digi-Key; Supplier Part Number 1: BAS70-04LT1GOSTR-ND; Supplier 2: Digi-Key; Supplier Part Number 2: BAS70-04LT1GOSCT-ND; Supplier 3: Digi-Key; Supplier Part Number 3: BAS70-04LT1GOSDKR-ND; Supplier 4: Farnell; Supplier Part Number 4: 1431108RL; Supplier 5: Farnell; Supplier Part Number 5: 1431108; Supplier 6: Newark; Supplier Part Number 6: 45J0556; Supplier 7: Newark; Supplier Part Number 7: 58M3978; Supplier 8: Mouser; Supplier Part Number 8: 863-BAS70-04LT1G; Configuration: Dual; Packing: Tape and Reel; RoHS: TRUE; Mounting Technology: Surface Mount; ComponentLink1Description: Manufacturer URL; ComponentLink1URL: http://www.onsemi.com/; ComponentLink2Description: Datasheet; ComponentLink2URL: http://www.onsemi.cn/pub_link/Collateral/BAS70-04LT1-D.PDF; ComponentLink3Description: Package Specification; ComponentLink3URL: http://www.onsemi.cn/pub_link/Collateral/318-08.PDF
footprint ONSC-SOT-23-3-318-08_V (SOT23, 3-Leads, Body 2.92x1.3mm, Pitch 0.95mm)
pins: 1 A, 2 K, 3 K/A

## BAS70LT1
designator D?
Schottky Barrier Diode, 3-Pin SOT-23, Tape and Reel; Manufacturer: On Semiconductor; PartNumber: BAS70LT1; Configuration: Single; IFSM Max (A): 0.1; DatasheetVersion: Rev. 8; PackageVersion: Rev. AP, 11/2009; PackageReference: SOT-23-3-318-08; PackageDescription: 3-Pin Small Outline Transistor, Body 2.92 x 1.3 mm, Pitch 0.95 mm; Supplier 1: Digi-Key; Supplier Part Number 1: BAS70LT1OSCT-ND; Supplier 2: Digi-Key; Supplier Part Number 2: BAS70LT1OSDKR-ND; Packing: Tape and Reel; RoHS: FALSE; Mounting Technology: Surface Mount; ComponentLink1Description: Manufacturer URL; ComponentLink1URL: http://www.onsemi.com/; ComponentLink2Description: Datasheet; ComponentLink2URL: http://www.onsemi.cn/pub_link/Collateral/BAS70LT1-D.PDF; ComponentLink3Description: Package Specification; ComponentLink3URL: http://www.onsemi.cn/pub_link/Collateral/318-08.PDF
footprint ONSC-SOT-23-3-318-08_V (SOT23, 3-Leads, Body 2.92x1.3mm, Pitch 0.95mm)
pins: 1 A, 2 NC, 3 K

## BAS70LT1G
designator D?
Schottky Barrier Diode, 3-Pin SOT-23, Pb-Free, Tape and Reel; Manufacturer: On Semiconductor; PartNumber: BAS70LT1G; Configuration: Single; IFSM Max (A): 0.1; DatasheetVersion: Rev. 8; PackageVersion: Rev. AP, 11/2009; PackageReference: SOT-23-3-318-08; PackageDescription: 3-Pin Small Outline Transistor, Body 2.92 x 1.3 mm, Pitch 0.95 mm; Supplier 1: Digi-Key; Supplier Part Number 1: BAS70LT1GOSTR-ND; Supplier 2: Digi-Key; Supplier Part Number 2: BAS70LT1GOSCT-ND; Supplier 3: Digi-Key; Supplier Part Number 3: BAS70LT1GOSDKR-ND; Supplier 4: Farnell; Supplier Part Number 4: 1651156RL; Supplier 5: Newark; Supplier Part Number 5: 45J0557; Supplier 6: Mouser; Supplier Part Number 6: 863-BAS70LT1G; Packing: Tape and Reel; RoHS: TRUE; Mounting Technology: Surface Mount; ComponentLink1Description: Manufacturer URL; ComponentLink1URL: http://www.onsemi.com/; ComponentLink2Description: Datasheet; ComponentLink2URL: http://www.onsemi.cn/pub_link/Collateral/BAS70LT1-D.PDF; ComponentLink3Description: Package Specification; ComponentLink3URL: http://www.onsemi.cn/pub_link/Collateral/318-08.PDF
footprint ONSC-SOT-23-3-318-08_V (SOT23, 3-Leads, Body 2.92x1.3mm, Pitch 0.95mm)
pins: 1 A, 2 NC, 3 K

## BAT54ALT1
designator D?
Schottky Barrier Diodes, 3-Pin SOT-23, Tape and Reel; Manufacturer: On Semiconductor; PartNumber: BAT54ALT1; Configuration: Common Anode; IFSM Max (A): 0.6; trr Max (ns): 5; DatasheetVersion: Rev. 12; PackageVersion: Rev. AP, 11/2009; PackageReference: SOT-23-3-318-08; PackageDescription: 3-Pin Small Outline Transistor, Body 2.92 x 1.3 mm, Pitch 0.95 mm; Supplier 1: Digi-Key; Supplier Part Number 1: BAT54ALT1OSCT-ND; Packing: Tape and Reel; RoHS: FALSE; Mounting Technology: Surface Mount; ComponentLink1Description: Manufacturer URL; ComponentLink1URL: http://www.onsemi.com/; ComponentLink2Description: Datasheet; ComponentLink2URL: http://www.onsemi.cn/pub_link/Collateral/BAT54ALT1-D.PDF; ComponentLink3Description: Package Specification; ComponentLink3URL: http://www.onsemi.cn/pub_link/Collateral/318-08.PDF
footprint ONSC-SOT-23-3-318-08_V (SOT23, 3-Leads, Body 2.92x1.3mm, Pitch 0.95mm)
pins: 1 K1, 2 K2, 3 A

## BAT54ALT1G
designator D?
Schottky Barrier Diodes, 3-Pin SOT-23, Pb-Free, Tape and Reel; Manufacturer: On Semiconductor; PartNumber: BAT54ALT1G; Configuration: Common Anode; IFSM Max (A): 0.6; trr Max (ns): 5; DatasheetVersion: Rev. 12; PackageVersion: Rev. AP, 11/2009; PackageReference: SOT-23-3-318-08; PackageDescription: 3-Pin Small Outline Transistor, Body 2.92 x 1.3 mm, Pitch 0.95 mm; Supplier 1: Digi-Key; Supplier Part Number 1: BAT54ALT1GOSTR-ND; Supplier 2: Digi-Key; Supplier Part Number 2: BAT54ALT1GOSCT-ND; Supplier 3: Digi-Key; Supplier Part Number 3: BAT54ALT1GOSDKR-ND; Supplier 4: Farnell; Supplier Part Number 4: 2317658; Supplier 5: Farnell; Supplier Part Number 5: 1431111RL; Supplier 6: Farnell; Supplier Part Number 6: 1431111; Supplier 7: Newark; Supplier Part Number 7: 67R1280; Supplier 8: Newark; Supplier Part Number 8: 45J0558; Supplier 9: Mouser; Supplier Part Number 9: 863-BAT54ALT1G; Packing: Tape and Reel; RoHS: TRUE; Mounting Technology: Surface Mount; ComponentLink1Description: Manufacturer URL; ComponentLink1URL: http://www.onsemi.com/; ComponentLink2Description: Datasheet; ComponentLink2URL: http://www.onsemi.cn/pub_link/Collateral/BAT54ALT1-D.PDF; ComponentLink3Description: Package Specification; ComponentLink3URL: http://www.onsemi.cn/pub_link/Collateral/318-08.PDF
footprint ONSC-SOT-23-3-318-08_V (SOT23, 3-Leads, Body 2.92x1.3mm, Pitch 0.95mm)
pins: 1 K1, 2 K2, 3 A

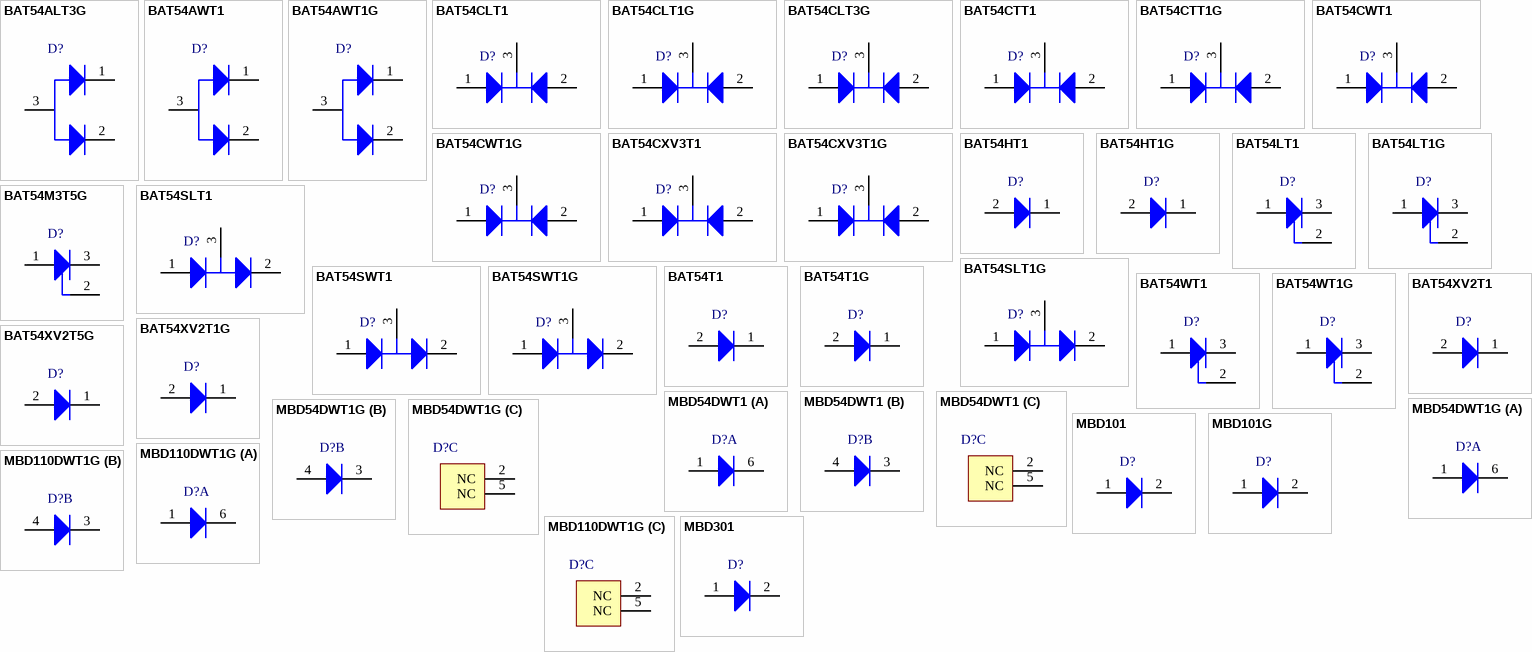
[diagram p1: symbols BAT54ALT3G to MBD301]

## BAT54ALT3G
designator D?
Schottky Barrier Diodes, 3-Pin SOT-23, Pb-Free, Tape and Reel; Manufacturer: On Semiconductor; PartNumber: BAT54ALT3G; Configuration: Common Anode; IFSM Max (A): 0.6; trr Max (ns): 5; DatasheetVersion: Rev. 12; PackageVersion: Rev. AP, 11/2009; PackageReference: SOT-23-3-318-08; PackageDescription: 3-Pin Small Outline Transistor, Body 2.92 x 1.3 mm, Pitch 0.95 mm; Supplier 1: Digi-Key; Supplier Part Number 1: BAT54ALT3G-ND; Supplier 2: Mouser; Supplier Part Number 2: 863-BAT54ALT3G; Packing: Tape and Reel; RoHS: TRUE; Mounting Technology: Surface Mount; ComponentLink1Description: Manufacturer URL; ComponentLink1URL: http://www.onsemi.com/; ComponentLink2Description: Datasheet; ComponentLink2URL: http://www.onsemi.cn/pub_link/Collateral/BAT54ALT1-D.PDF; ComponentLink3Description: Package Specification; ComponentLink3URL: http://www.onsemi.cn/pub_link/Collateral/318-08.PDF
footprint ONSC-SOT-23-3-318-08_V (SOT23, 3-Leads, Body 2.92x1.3mm, Pitch 0.95mm)
pins: 1 K1, 2 K2, 3 A

## BAT54AWT1
designator D?
Schottky Barrier Diodes, 3-Pin SOT-323, Tape and Reel; Manufacturer: On Semiconductor; PartNumber: BAT54AWT1; Note: 0; Configuration: Common Anode; IFSM Max (A): 0.6; trr Max (ns): 5; DatasheetVersion: Rev. 3; PackageVersion: Rev. N, 11/2008; PackageReference: SOT-323-3-419-04; PackageDescription: 3-Pin Small Outline Transistor, Body 2 x 1.25 mm, Pitch 0.65 mm; Packing: Tape and Reel; RoHS: FALSE; Mounting Technology: Surface Mount; ComponentLink1Description: Manufacturer URL; ComponentLink1URL: http://www.onsemi.com/; ComponentLink2Description: Datasheet; ComponentLink2URL: http://www.onsemi.cn/pub_link/Collateral/BAT54AWT1-D.PDF; ComponentLink3Description: Package Specification; ComponentLink3URL: http://www.onsemi.com/pub_link/Collateral/419-04.PDF
footprint ONSC-SOT-323-3-419-04_V (SOT23, 3-Leads, Body 2x1.25mm, Pitch 0.65mm)
pins: 1 K1, 2 K2, 3 A

## BAT54AWT1G
designator D?
Schottky Barrier Diodes, 3-Pin SOT-323, Pb-Free, Tape and Reel; Manufacturer: On Semiconductor; PartNumber: BAT54AWT1G; Configuration: Common Anode; IFSM Max (A): 0.6; trr Max (ns): 5; DatasheetVersion: Rev. 3; PackageVersion: Rev. N, 11/2008; PackageReference: SOT-323-3-419-04; PackageDescription: 3-Pin Small Outline Transistor, Body 2 x 1.25 mm, Pitch 0.65 mm; Supplier 1: Digi-Key; Supplier Part Number 1: BAT54AWT1GOSTR-ND; Supplier 2: Digi-Key; Supplier Part Number 2: BAT54AWT1GOSCT-ND; Supplier 3: Digi-Key; Supplier Part Number 3: BAT54AWT1GOSDKR-ND; Supplier 4: Farnell; Supplier Part Number 4: 2369426; Supplier 5: Farnell; Supplier Part Number 5: 1861208; Supplier 6: Newark; Supplier Part Number 6: 09R9361; Supplier 7: Newark; Supplier Part Number 7: 45J0559; Supplier 8: Mouser; Supplier Part Number 8: 863-BAT54AWT1G; Packing: Tape and Reel; RoHS: TRUE; Mounting Technology: Surface Mount; ComponentLink1Description: Manufacturer URL; ComponentLink1URL: http://www.onsemi.com/; ComponentLink2Description: Datasheet; ComponentLink2URL: http://www.onsemi.cn/pub_link/Collateral/BAT54AWT1-D.PDF; ComponentLink3Description: Package Specification; ComponentLink3URL: http://www.onsemi.com/pub_link/Collateral/419-04.PDF
footprint ONSC-SOT-323-3-419-04_V (SOT23, 3-Leads, Body 2x1.25mm, Pitch 0.65mm)
pins: 1 K1, 2 K2, 3 A

## BAT54CLT1
designator D?
Dual Common Cathode Schottky Barrier Diodes, 3-Pin SOT-23, Tape and Reel; Manufacturer: On Semiconductor; PartNumber: BAT54CLT1; Note: 0; IFSM Max (A): 0.6; trr Max (ns): 5; DatasheetVersion: Rev. 8; PackageVersion: Rev. AP, 11/2009; PackageReference: SOT-23-3-318-08; PackageDescription: 3-Pin Small Outline Transistor, Body 2.92 x 1.3 mm, Pitch 0.95 mm; Configuration: Common Cathode; Packing: Tape and Reel; RoHS: FALSE; Mounting Technology: Surface Mount; ComponentLink1Description: Manufacturer URL; ComponentLink1URL: http://www.onsemi.com/; ComponentLink2Description: Datasheet; ComponentLink2URL: http://www.onsemi.cn/pub_link/Collateral/BAT54CLT1-D.PDF; ComponentLink3Description: Package Specification; ComponentLink3URL: http://www.onsemi.cn/pub_link/Collateral/318-08.PDF
footprint ONSC-SOT-23-3-318-08_V (SOT23, 3-Leads, Body 2.92x1.3mm, Pitch 0.95mm)
pins: 1 A1, 2 A2, 3 K

## BAT54CLT1G
designator D?
Dual Common Cathode Schottky Barrier Diodes, 3-Pin SOT-23, Pb-Free, Tape and Reel; Manufacturer: On Semiconductor; PartNumber: BAT54CLT1G; IFSM Max (A): 0.6; trr Max (ns): 5; DatasheetVersion: Rev. 8; PackageVersion: Rev. AP, 11/2009; PackageReference: SOT-23-3-318-08; PackageDescription: 3-Pin Small Outline Transistor, Body 2.92 x 1.3 mm, Pitch 0.95 mm; Supplier 1: Digi-Key; Supplier Part Number 1: BAT54CLT1GOSTR-ND; Supplier 2: Digi-Key; Supplier Part Number 2: BAT54CLT1GOSCT-ND; Supplier 3: Digi-Key; Supplier Part Number 3: BAT54CLT1GOSDKR-ND; Supplier 4: Farnell; Supplier Part Number 4: 2317689; Supplier 5: Farnell; Supplier Part Number 5: 1431112RL; Supplier 6: Farnell; Supplier Part Number 6: 1431112; Supplier 7: Newark; Supplier Part Number 7: 06R3466; Supplier 8: Newark; Supplier Part Number 8: 88H4551; Supplier 9: Mouser; Supplier Part Number 9: 863-BAT54CLT1G; Configuration: Common Cathode; Packing: Tape and Reel; RoHS: TRUE; Mounting Technology: Surface Mount; ComponentLink1Description: Manufacturer URL; ComponentLink1URL: http://www.onsemi.com/; ComponentLink2Description: Datasheet; ComponentLink2URL: http://www.onsemi.cn/pub_link/Collateral/BAT54CLT1-D.PDF; ComponentLink3Description: Package Specification; ComponentLink3URL: http://www.onsemi.cn/pub_link/Collateral/318-08.PDF
footprint ONSC-SOT-23-3-318-08_V (SOT23, 3-Leads, Body 2.92x1.3mm, Pitch 0.95mm)
pins: 1 A1, 2 A2, 3 K

## BAT54CLT3G
designator D?
Dual Common Cathode Schottky Barrier Diodes, 3-Pin SOT-23, Pb-Free, Tape and Reel; Manufacturer: On Semiconductor; PartNumber: BAT54CLT3G; IFSM Max (A): 0.6; trr Max (ns): 5; DatasheetVersion: Rev. 8; PackageVersion: Rev. AP, 11/2009; PackageReference: SOT-23-3-318-08; PackageDescription: 3-Pin Small Outline Transistor, Body 2.92 x 1.3 mm, Pitch 0.95 mm; Supplier 1: Digi-Key; Supplier Part Number 1: BAT54CLT3G-ND; Supplier 2: Newark; Supplier Part Number 2: 16M4454; Supplier 3: Mouser; Supplier Part Number 3: 863-BAT54CLT3G; Configuration: Common Cathode; Packing: Tape and Reel; RoHS: TRUE; Mounting Technology: Surface Mount; ComponentLink1Description: Manufacturer URL; ComponentLink1URL: http://www.onsemi.com/; ComponentLink2Description: Datasheet; ComponentLink2URL: http://www.onsemi.cn/pub_link/Collateral/BAT54CLT1-D.PDF; ComponentLink3Description: Package Specification; ComponentLink3URL: http://www.onsemi.cn/pub_link/Collateral/318-08.PDF
footprint ONSC-SOT-23-3-318-08_V (SOT23, 3-Leads, Body 2.92x1.3mm, Pitch 0.95mm)
pins: 1 A1, 2 A2, 3 K

## BAT54CTT1
designator D?
Dual Series Cathode Schottky Barrier Diodes, 3-Pin SC-75, Tape and Reel; Manufacturer: On Semiconductor; PartNumber: BAT54CTT1; Configuration: Common Cathode; IFSM Max (A): 0.6; trr Max (ns): 5; DatasheetVersion: Rev. 4; PackageVersion: Rev. F, 07/2005; PackageReference: SC-75-3-463-01; PackageDescription: 3-Pin Small Outline Transistor, Body 1.6 x 0.8 mm, Pitch 0.5 mm; Supplier 1: Digi-Key; Supplier Part Number 1: BAT54CTT1-ND; Packing: Tape and Reel; RoHS: FALSE; Mounting Technology: Surface Mount; ComponentLink1Description: Manufacturer URL; ComponentLink1URL: http://www.onsemi.com/; ComponentLink2Description: Datasheet; ComponentLink2URL: http://www.onsemi.cn/pub_link/Collateral/BAT54CTT1-D.PDF; ComponentLink3Description: Package Specification; ComponentLink3URL: http://www.onsemi.com/pub_link/Collateral/463-01.PDF
footprint ONSC-SC-75-3-463-01_V (SOT23, 3-Leads, Body 1.6x0.8mm, Pitch 0.5mm)
pins: 1 A1, 2 A2, 3 K